# Altium schematic symbol library 691 214 100 0xx.SchLib: 2 symbols
Pins are listed as number, name and electrical type; pins without a type are passive.

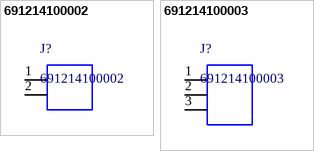
[diagram p0: symbols 691214100002 to 691214100003]

## 691214100002
designator J?
WR-TBL Terminal Blocks Serie 2141 - 3.50 mm; Manufacturer: Wurth Elektronik; ComponentLink1 Description: Manufacturer; ComponentLink2 Description: Datasheet; ComponentLink1URL: http://www.we-online.de; Created by: Baojun Chen; Created Date: 8.Sep.2015; partNo: 691214100002
footprint 691214100002 (Serie 2141 - 3.50 mm _ 2 pins)
pins: 1, 2

## 691214100003
designator J?
WR-TBL Terminal Blocks Serie 2141 - 3.50 mm; Manufacturer: Wurth Elektronik; ComponentLink1 Description: Manufacturer; ComponentLink2 Description: Datasheet; ComponentLink1URL: http://www.we-online.de; Created by: Baojun Chen; Created Date: 8.Sep.2015; partNo: 691214100003
footprint 691214100003 (Serie 2141 - 3.50 mm _ 3 pins)
pins: 1, 2, 3